# Altium integrated library CH340C USB-C 74HC595D.IntLib: 1 symbol
Pins are listed as number, name and electrical type; pins without a type are passive.

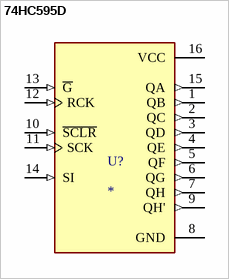
[diagram p0: symbol 74HC595D]

## 74HC595D
designator U?
Shift Shift Register 1 Element 8 Bit 16-SOIC; MF: Toshiba; MP: 74HC595D; SnapEDA_Link: https://www.snapeda.com/parts/74HC595D/Toshiba/view-part/?ref=snap; Package: SOIC-16 ON Semiconductor; Value: *; Check_prices: https://www.snapeda.com/parts/74HC595D/Toshiba/view-part/?ref=eda
footprint SOP127P600X175-16N
pins: 1 QB (out), 2 QC (out), 3 QD (out), 4 QE (out), 5 QF (out), 6 QG (out), 7 QH (out), 8 GND (power), 9 QH' (out), 10 ~{SCLR} (in), 11 SCK (in), 12 RCK (in), 13 ~{G} (in), 14 SI (in), 15 QA (out), 16 VCC (power)